# Altium footprint library LED 4pin 3.5 x 2.8.PcbLib: 1 footprints
Each footprint in its own frame and in the unit in brackets; x right, y up, seen from the top. Pads: shape width x height; smd on the part's side, far side on the other; paste and mask are expansions set on the pad; w line width, h text height; cw(c..) or ccw(c..) is an arc to the next point about the centre after c.
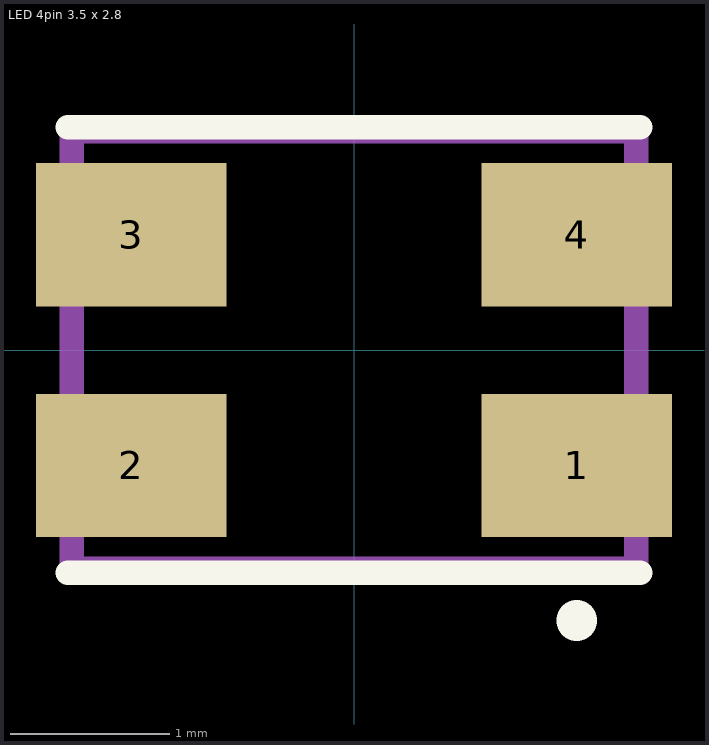
[diagram p0: the footprint, top view; thin cyan lines are the x and y axes]

## LED 4pin 3.5 x 2.8 [mm] "LED 3 COLOR 3.5mm x 2.8mm"
pads (4):
  rect 1.2x0.9 smd: 1(1.4,-0.725) 2(-1.4,-0.725) 3(-1.4,0.725) 4(1.4,0.725)
Top Overlay:
  circle w0.254: c1.4,-1.7 r0.001
  lines w0.152: -1.8,-1.4 1.8,-1.4 ; -1.8,1.4 1.8,1.4
Mechanical 13:
  lines w0.152: -1.774,-1.374 -1.774,1.374 1.774,1.374 1.774,-1.374 -1.774,-1.374
3D body "AAA3528.STEP": height 1.9, standoff 0, extent -1.75,-1.4 1.75,1.4